# EAGLE library part ATMEGA328P- (library ATMEGA328)
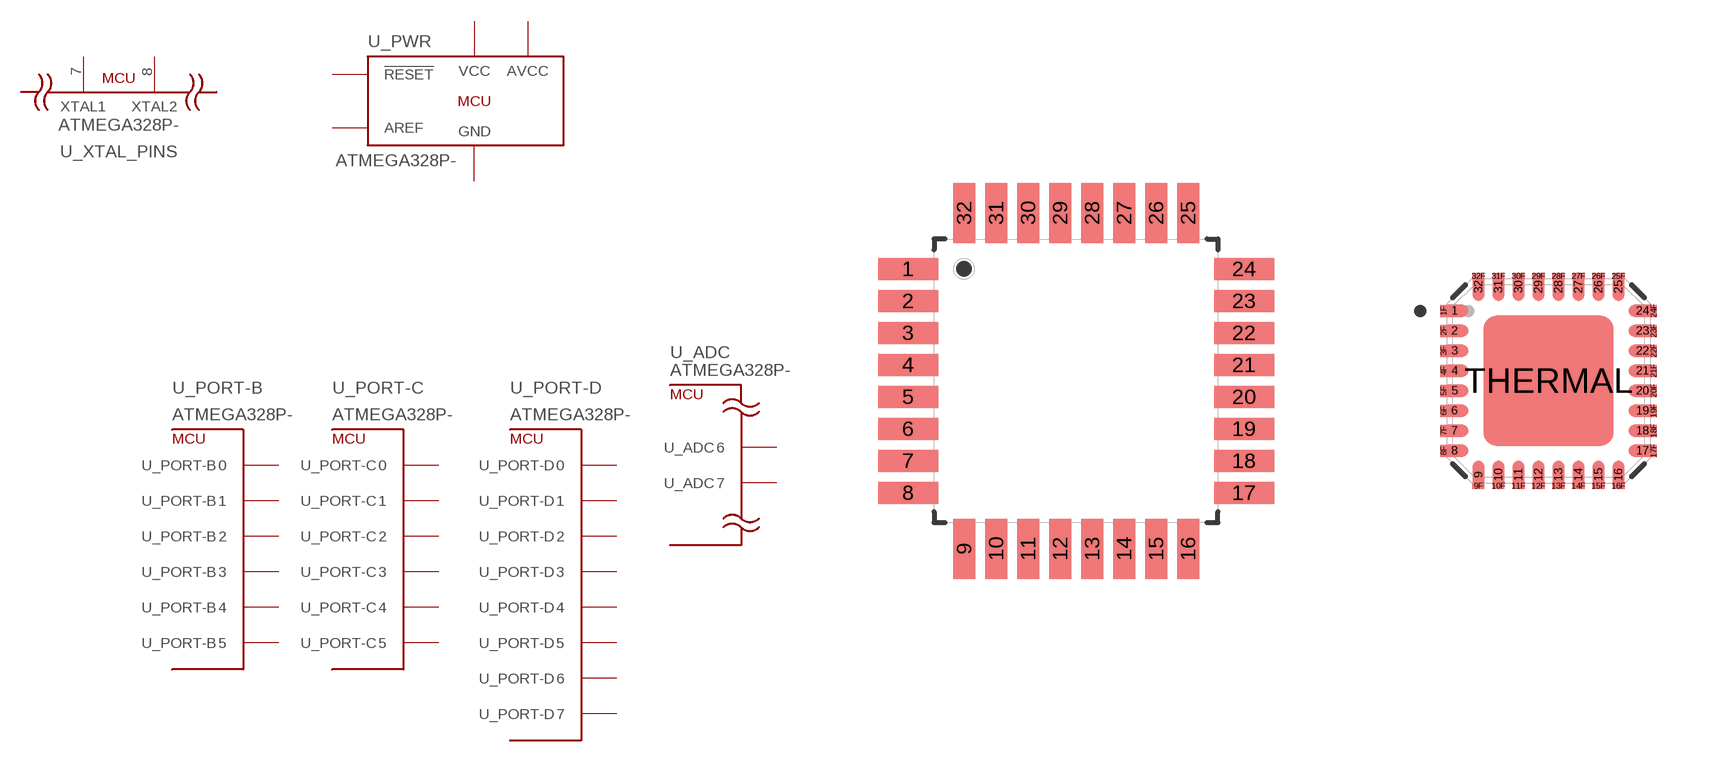
[diagram p0: symbol with the pads of TQFP-32_ATMEL; footprints TQFP-32_ATMEL, QFN-32_ATMEL]

Designator prefix U; gates _XTAL_PINS=ATMEGA328_XTAL _PORT-D=ATMEL_PORT8 _PORT-B=ATMEGA328_PORTS_BC _PORT-C=ATMEGA328_PORTS_BC _ADC=ATMEGA328_ADC6_ADC7 _PWR=ATMEGA328_PWR

## ATMEGA328P-AU  [TQFP-32_ATMEL]
1  _PORT-D:3
2  _PORT-D:4
3  _PWR:GND  pwr
4  _PWR:VCC
5  _PWR:GND  pwr
6  _PWR:VCC
7  _XTAL_PINS:XTAL1
8  _XTAL_PINS:XTAL2
9  _PORT-D:5
10  _PORT-D:6
11  _PORT-D:7
12  _PORT-B:0
13  _PORT-B:1
14  _PORT-B:2
15  _PORT-B:3
16  _PORT-B:4
17  _PORT-B:5
18  _PWR:AVCC
19  _ADC:6
20  _PWR:AREF
21  _PWR:GND  pwr
22  _ADC:7
23  _PORT-C:0
24  _PORT-C:1
25  _PORT-C:2
26  _PORT-C:3
27  _PORT-C:4
28  _PORT-C:5
29  _PWR:!RESET!
30  _PORT-D:0
31  _PORT-D:1
32  _PORT-D:2

## ATMEGA328P-MU  [QFN-32_ATMEL]
1  _PORT-D:3
1F  _PORT-D:3
2  _PORT-D:4
2F  _PORT-D:4
3  _PWR:GND  pwr
3F  _PWR:GND  pwr
4  _PWR:VCC
4F  _PWR:VCC
5  _PWR:GND  pwr
5F  _PWR:GND  pwr
6  _PWR:VCC
6F  _PWR:VCC
7  _XTAL_PINS:XTAL1
7F  _XTAL_PINS:XTAL1
8  _XTAL_PINS:XTAL2
8F  _XTAL_PINS:XTAL2
9  _PORT-D:5
9F  _PORT-D:5
10  _PORT-D:6
10F  _PORT-D:6
11  _PORT-D:7
11F  _PORT-D:7
12  _PORT-B:0
12F  _PORT-B:0
13  _PORT-B:1
13F  _PORT-B:1
14  _PORT-B:2
14F  _PORT-B:2
15  _PORT-B:3
15F  _PORT-B:3
16  _PORT-B:4
16F  _PORT-B:4
17  _PORT-B:5
17F  _PORT-B:5
18  _PWR:AVCC
18F  _PWR:AVCC
19  _ADC:6
19F  _ADC:6
20  _PWR:AREF
20F  _PWR:AREF
21  _PWR:GND  pwr
21F  _PWR:GND  pwr
22  _ADC:7
22F  _ADC:7
23  _PORT-C:0
23F  _PORT-C:0
24  _PORT-C:1
24F  _PORT-C:1
25  _PORT-C:2
25F  _PORT-C:2
26  _PORT-C:3
26F  _PORT-C:3
27  _PORT-C:4
27F  _PORT-C:4
28  _PORT-C:5
28F  _PORT-C:5
29  _PWR:!RESET!
29F  _PWR:!RESET!
30  _PORT-D:0
30F  _PORT-D:0
31  _PORT-D:1
31F  _PORT-D:1
32  _PORT-D:2
32F  _PORT-D:2
THERMAL  _PWR:GND  pwr

## Footprint TQFP-32_ATMEL (pad centres in mm)
smd 1.5 x 0.55: 1 -4.2,2.8; 2 -4.2,2; 3 -4.2,1.2; 4 -4.2,0.4; 5 -4.2,-0.4; 6 -4.2,-1.2; 7 -4.2,-2; 8 -4.2,-2.8; 17 4.2,-2.8; 18 4.2,-2; 19 4.2,-1.2; 20 4.2,-0.4; 21 4.2,0.4; 22 4.2,1.2; 23 4.2,2; 24 4.2,2.8
smd 0.55 x 1.5: 9 -2.8,-4.2; 10 -2,-4.2; 11 -1.2,-4.2; 12 -0.4,-4.2; 13 0.4,-4.2; 14 1.2,-4.2; 15 2,-4.2; 16 2.8,-4.2; 25 2.8,4.2; 26 2,4.2; 27 1.2,4.2; 28 0.4,4.2; 29 -0.4,4.2; 30 -1.2,4.2; 31 -2,4.2; 32 -2.8,4.2

## Footprint QFN-32_ATMEL (pad centres in mm)
smd 0.7 x 0.3: 1 -2.35,1.75; 2 -2.35,1.25; 3 -2.35,0.75; 4 -2.35,0.25; 5 -2.35,-0.25; 6 -2.35,-0.75; 7 -2.35,-1.25; 8 -2.35,-1.75; 17 2.35,-1.75; 18 2.35,-1.25; 19 2.35,-0.75; 20 2.35,-0.25; 21 2.35,0.25; 22 2.35,0.75; 23 2.35,1.25; 24 2.35,1.75
smd 0.15 x 0.3: 1F -2.625,1.75; 2F -2.625,1.25; 3F -2.625,0.75; 4F -2.625,0.25; 5F -2.625,-0.25; 6F -2.625,-0.75; 7F -2.625,-1.25; 8F -2.625,-1.75; 17F 2.625,-1.75; 18F 2.625,-1.25; 19F 2.625,-0.75; 20F 2.625,-0.25; 21F 2.625,0.25; 22F 2.625,0.75; 23F 2.625,1.25; 24F 2.625,1.75
smd 0.3 x 0.7: 9 -1.75,-2.35; 10 -1.25,-2.35; 11 -0.75,-2.35; 12 -0.25,-2.35; 13 0.25,-2.35; 14 0.75,-2.35; 15 1.25,-2.35; 16 1.75,-2.35; 25 1.75,2.35; 26 1.25,2.35; 27 0.75,2.35; 28 0.25,2.35; 29 -0.25,2.35; 30 -0.75,2.35; 31 -1.25,2.35; 32 -1.75,2.35
smd 0.3 x 0.15: 9F -1.75,-2.625; 10F -1.25,-2.625; 11F -0.75,-2.625; 12F -0.25,-2.625; 13F 0.25,-2.625; 14F 0.75,-2.625; 15F 1.25,-2.625; 16F 1.75,-2.625; 25F 1.75,2.625; 26F 1.25,2.625; 27F 0.75,2.625; 28F 0.25,2.625; 29F -0.25,2.625; 30F -0.75,2.625; 31F -1.25,2.625; 32F -1.75,2.625
smd 3.25 x 3.25: THERMAL 0,0